# Altium footprint library valve_module.PcbLib: 12 footprints
Each footprint in its own frame and in the unit in brackets; x right, y up, seen from the top. Pads: shape width x height; smd on the part's side, far side on the other; paste and mask are expansions set on the pad; w line width, h text height; cw(c..) or ccw(c..) is an arc to the next point about the centre after c.
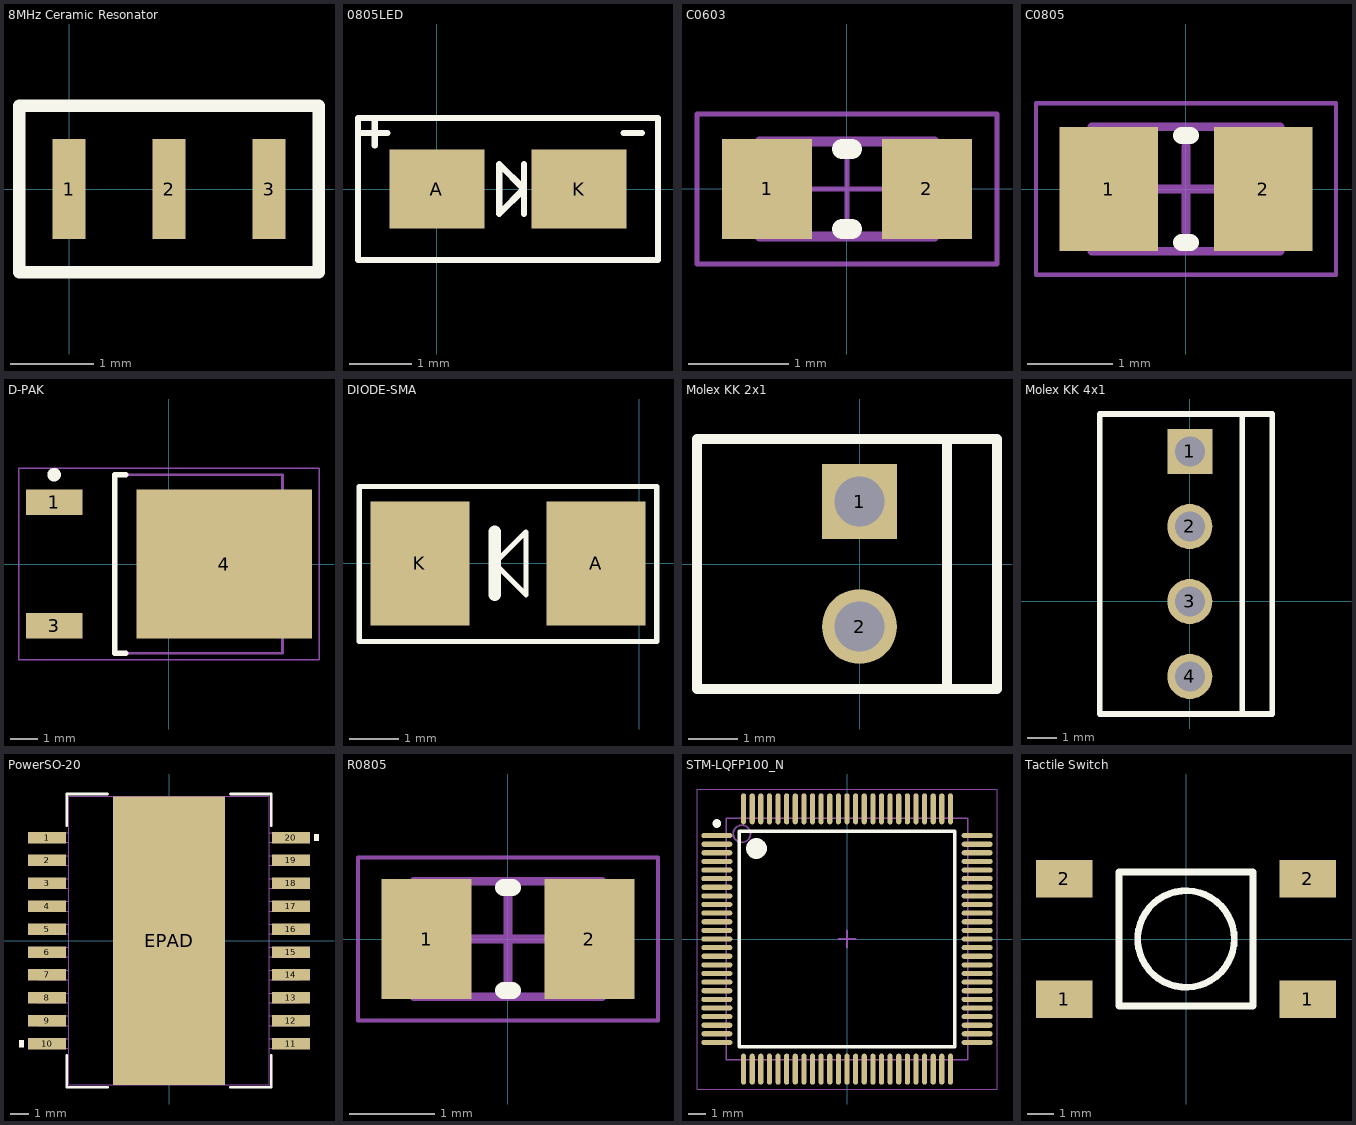
[diagram p0: the footprints below, top view; thin cyan lines are the x and y axes]

## 8MHz Ceramic Resonator [mm] "8MHz Ceramic Resonator Murata"
pads (3):
  rect 0.4x1.2 smd: 1(0,0) 2(1.2,0) 3(2.4,0)
Top Overlay:
  lines w0.15: -0.6,-1 3,-1 3,1 -0.6,1 -0.6,-1

## 0805LED [mil]
pads (2):
  rect 60x50 smd: A(0,0) K(90,0)
Top Overlay:
  lines w4: -50,35.43 -31.5,35.43 ; -39.37,27.56 -39.37,43.31 ; 55.12,-15.75 55.12,15.75 ; 118.11,35.43 129.92,35.43 ; -50,-45 -50,45 140,45 140,-45 -50,-45 ; 39.37,-15.75 39.37,15.75 55.12,0 39.37,-15.75
3D body "User Library-LED SMD0805.step": height 33.45, standoff 0.23, extent -0.6,-15.68 80.6,20

## C0603 [mm] "Chip Capacitor, Body 1.6x0.8mm, Height 1.0mm, IPC Medium Density"
height 1
pads (2):
  rect 0.9x1 smd: 1(-0.8,0) 2(0.8,0)
Top Overlay:
  lines w0.2: -0.05,-0.4 0.05,-0.4 ; -0.05,0.4 0.05,0.4
Mechanical 13:
  lines w0.1: -0.875,-0.475 0.875,-0.475 0.875,0.475 -0.875,0.475 -0.875,-0.475
Mechanical 15:
  lines w0.05: -0.475,0 0.475,0 ; 0,-0.475 0,0.475 ; -1.5,-0.75 1.5,-0.75 1.5,0.75 -1.5,0.75 -1.5,-0.75
3D body: height 1, standoff 0, extent 0.525,-0.475 0.875,0.475
3D body: height 1, standoff 0, extent -0.875,-0.475 -0.525,0.475
3D body: height 1, standoff 0, extent -0.525,-0.475 0.525,0.475

## C0805 [mm] "Chip Capacitor, Body 2.0x1.2mm, Height 0.75mm, IPC Medium Density"
height 0.75
pads (2):
  rect 1.15x1.45 smd: 1(-0.9,0) 2(0.9,0)
Top Overlay:
  lines w0.2: -0.05,-0.625 0.05,-0.625 ; -0.05,0.625 0.05,0.625
Mechanical 13:
  lines w0.1: -1.1,-0.725 1.1,-0.725 1.1,0.725 -1.1,0.725 -1.1,-0.725
Mechanical 15:
  lines w0.05: -1.75,-1 1.75,-1 1.75,1 -1.75,1 -1.75,-1
  lines w0.1: -0.5,0 0.5,0 ; 0,-0.5 0,0.5
3D body "User Library-cap0805.STEP": height 0.93, standoff -0.01, extent -1.425,-0.667 1.575,0.733

## D-PAK [mm] "D-PAK, 4-Leads, Body 6.1x6.5mm, Pitch 2.28mm, Lead Span 9.7mm, IPC Medium Density"
height 2.4
pads (3):
  rect 2.1x0.95 smd: 1(-4.25,2.28) 3(-4.25,-2.28)
  rect 6.5x5.5 smd: 4(2.05,0)
Top Overlay:
  circle w0.25: c-4.25,3.305 r0.125
  lines w0.2: -1.6,-3.3 -2,-3.3 -2,3.3 -1.6,3.3
Mechanical 13:
  lines w0.1: -2,-3.3 -2,3.3 4.2,3.3 4.2,-3.3 -2,-3.3
Mechanical 15:
  lines w0.05: -5.55,-3.55 -5.55,3.55 5.55,3.55 5.55,-3.55 -5.55,-3.55
  lines w0.1: -0.5,0 0.5,0 ; 0,-0.5 0,0.5
3D body "User Library-TO252AA.step": height 2.3, standoff -0.01, extent -4.596,-3.278 5.104,3.302

## DIODE-SMA [mm]
pads (2):
  rect 2x2.5 smd: A(-0.875,0) K(-4.425,0)
Top Overlay:
  lines w0.102: -5.65,-1.575 0.35,-1.575 0.35,1.55 -5.65,1.55 -5.65,-1.575 ; -2.921,0 -2.286,-0.635 -2.286,0 -2.286,0.635 -2.921,0
  lines w0.25: -2.921,-0.635 -2.921,0 -2.921,0.635
3D body "User Library-DO-214Aa SMA.step": height 1.4, standoff 1.4, extent -2.6,0 -2.6,0

## Molex KK 2x1 [mil]
pads (2):
  rect 60x60 hole 40: 1(0,50)
  round 60 hole 40: 2(0,-50)
Top Overlay:
  lines w7.87: -120,-100 110,-100 110,100 -130,100 -130,-60 -130,-100 -110,-100 ; 70,-100 70,100
3D body "User Library-molex kk 0_1in latching 2 way vertical header.step": height 457.5, standoff -142.5, extent -120,-100 110,100

## Molex KK 4x1 [mil]
pads (4):
  rect 60x60 hole 40: 1(0,200)
  round 60 hole 40: 2(0,100) 3(0,0) 4(0,-100)
Top Overlay:
  lines w7.87: 70,-150 70,250 ; -120,-150 -120,-120 -120,250 110,250 110,-150 -120,-150
3D body "User Library-molex kk 0_1in latching 4 way vertical header.step": height 457.5, standoff -142.5, extent -120,-150 110,250

## PowerSO-20 [mil]
pads (21):
  rect 83x25 smd paste+0 mask+0: 1(-266,225) 2(-266,175) 3(-266,125) 4(-266,75) 5(-266,25) 6(-266,-25) 7(-266,-75) 8(-266,-125) 9(-266,-175) 10(-266,-225) 11(266,-225) 12(266,-175) 13(266,-125) 14(266,-75) 15(266,-25) 16(266,25) 17(266,75) 18(266,125) 19(266,175) 20(266,225)
  rect 244x630 smd paste-314.5 mask+0: EPAD(0,0)
Top Overlay:
  region: -317.5,-217.5 -327.5,-217.5 -327.5,-232.5 -317.5,-232.5
  region: 317.5,232.5 327.5,232.5 327.5,217.5 317.5,217.5
  lines w6: -223.5,-250.56 -223.5,-320 -134.11,-320 ; -223.5,250.56 -223.5,320 -134.11,320 ; 134.11,-320 223.5,-320 223.5,-250.56 ; 134.11,320 223.5,320 223.5,250.56
Top Paste:
  drawing of 48 lines, arcs and shapes, not listed
Mechanical 13:
  lines w0: -12,315 ccw(c0,315) 12,315
  lines w1: -285.5,-235.5 -285.5,-214.5 -218.5,-214.5 -218.5,-235.5 -285.5,-235.5 ; -285.5,-185.5 -285.5,-164.5 -218.5,-164.5 -218.5,-185.5 -285.5,-185.5 ; -285.5,-135.5 -285.5,-114.5 -218.5,-114.5 -218.5,-135.5 -285.5,-135.5 ; -285.5,-85.5 -285.5,-64.5 -218.5,-64.5 -218.5,-85.5 -285.5,-85.5 ; -285.5,-35.5 -285.5,-14.5 -218.5,-14.5 -218.5,-35.5 -285.5,-35.5 ; -285.5,14.5 -285.5,35.5 -218.5,35.5 -218.5,14.5 -285.5,14.5 ; -285.5,64.5 -285.5,85.5 -218.5,85.5 -218.5,64.5 -285.5,64.5 ; -285.5,114.5 -285.5,135.5 -218.5,135.5 -218.5,114.5 -285.5,114.5 ; -285.5,164.5 -285.5,185.5 -218.5,185.5 -218.5,164.5 -285.5,164.5 ; -285.5,214.5 -285.5,235.5 -218.5,235.5 -218.5,214.5 -285.5,214.5 ; -218.5,-315 218.5,-315 218.5,315 -218.5,315 -218.5,-315 ; 218.5,-235.5 218.5,-214.5 285.5,-214.5 285.5,-235.5 218.5,-235.5 ; 218.5,-185.5 218.5,-164.5 285.5,-164.5 285.5,-185.5 218.5,-185.5 ; 218.5,-135.5 218.5,-114.5 285.5,-114.5 285.5,-135.5 218.5,-135.5 ; 218.5,-85.5 218.5,-64.5 285.5,-64.5 285.5,-85.5 218.5,-85.5 ; 218.5,-35.5 218.5,-14.5 285.5,-14.5 285.5,-35.5 218.5,-35.5 ; 218.5,14.5 218.5,35.5 285.5,35.5 285.5,14.5 218.5,14.5 ; 218.5,64.5 218.5,85.5 285.5,85.5 285.5,64.5 218.5,64.5 ; 218.5,114.5 218.5,135.5 285.5,135.5 285.5,114.5 218.5,114.5 ; 218.5,164.5 218.5,185.5 285.5,185.5 285.5,164.5 218.5,164.5 ; 218.5,214.5 218.5,235.5 285.5,235.5 285.5,214.5 218.5,214.5
3D body: height 10, standoff 0, extent 0,0 10,10
3D body "PowerSO-20.step": height 142.09, standoff 0, extent -285.51,-315 285.51,315

## R0805 [mm] "Chip Resistor, Body 2.0x1.3mm, IPC Medium Density"
height 0.7
pads (2):
  rect 1.05x1.4 smd: 1(-0.95,0) 2(0.95,0)
Top Overlay:
  lines w0.2: -0.05,-0.6 0.05,-0.6 ; -0.05,0.6 0.05,0.6
Mechanical 13:
  lines w0.1: -1.1,-0.675 1.1,-0.675 1.1,0.675 -1.1,0.675 -1.1,-0.675
Mechanical 15:
  lines w0.05: -1.75,-0.95 1.75,-0.95 1.75,0.95 -1.75,0.95 -1.75,-0.95
  lines w0.1: -0.5,0 0.5,0 ; 0,-0.5 0,0.5
3D body "User Library-res0805.STEP": height 0.53, standoff 0, extent -1.465,-0.702 1.535,0.698

## STM-LQFP100_N [mm] "Thin QFP, 100-Leads, Body 14x14mm, Pitch 0.5mm, IPC Medium Density"
height 1.6
pads (100):
  oval 1.8x0.3 smd: 1(-7.55,6) 2(-7.55,5.5) 3(-7.55,5) 4(-7.55,4.5) 5(-7.55,4) 6(-7.55,3.5) 7(-7.55,3) 8(-7.55,2.5) 9(-7.55,2) 10(-7.55,1.5) 11(-7.55,1) 12(-7.55,0.5) 13(-7.55,0) 14(-7.55,-0.5) 15(-7.55,-1) 16(-7.55,-1.5) 17(-7.55,-2) 18(-7.55,-2.5) 19(-7.55,-3) 20(-7.55,-3.5) 21(-7.55,-4) 22(-7.55,-4.5) 23(-7.55,-5) 24(-7.55,-5.5) 25(-7.55,-6) 51(7.55,-6) 52(7.55,-5.5) 53(7.55,-5) 54(7.55,-4.5) 55(7.55,-4) 56(7.55,-3.5) 57(7.55,-3) 58(7.55,-2.5) 59(7.55,-2) 60(7.55,-1.5) 61(7.55,-1) 62(7.55,-0.5) 63(7.55,0) 64(7.55,0.5) 65(7.55,1) 66(7.55,1.5) 67(7.55,2) 68(7.55,2.5) 69(7.55,3) 70(7.55,3.5) 71(7.55,4) 72(7.55,4.5) 73(7.55,5) 74(7.55,5.5) 75(7.55,6)
  oval 0.3x1.8 smd: 26(-6,-7.55) 27(-5.5,-7.55) 28(-5,-7.55) 29(-4.5,-7.55) 30(-4,-7.55) 31(-3.5,-7.55) 32(-3,-7.55) 33(-2.5,-7.55) 34(-2,-7.55) 35(-1.5,-7.55) 36(-1,-7.55) 37(-0.5,-7.55) 38(0,-7.55) 39(0.5,-7.55) 40(1,-7.55) 41(1.5,-7.55) 42(2,-7.55) 43(2.5,-7.55) 44(3,-7.55) 45(3.5,-7.55) 46(4,-7.55) 47(4.5,-7.55) 48(5,-7.55) 49(5.5,-7.55) 50(6,-7.55) 76(6,7.55) 77(5.5,7.55) 78(5,7.55) 79(4.5,7.55) 80(4,7.55) 81(3.5,7.55) 82(3,7.55) 83(2.5,7.55) 84(2,7.55) 85(1.5,7.55) 86(1,7.55) 87(0.5,7.55) 88(0,7.55) 89(-0.5,7.55) 90(-1,7.55) 91(-1.5,7.55) 92(-2,7.55) 93(-2.5,7.55) 94(-3,7.55) 95(-3.5,7.55) 96(-4,7.55) 97(-4.5,7.55) 98(-5,7.55) 99(-5.5,7.55) 100(-6,7.55)
Top Overlay:
  circle w0.6: c-5.25,5.25 r0.3
  circle w0.25: c-7.55,6.7 r0.125
  lines w0.2: -6.25,-6.25 6.25,-6.25 6.25,6.25 -6.25,6.25 -6.25,-6.25
Mechanical 13:
  circle w0.1: c-6.1,6.1 r0.5
  lines w0.1: -7,-7 7,-7 7,7 -7,7 -7,-7
Mechanical 15:
  lines w0.05: -8.7,-8.7 8.7,-8.7 8.7,8.7 -8.7,8.7 -8.7,-8.7
  lines w0.1: -0.5,0 0.5,0 ; 0,-0.5 0,0.5
3D body: height 1.6, standoff 0.05, extent -7,-7 7,7

## Tactile Switch [mm]
pads (4):
  rect 2.1x1.4 smd: 1(-4.55,-2.25) 1(4.55,-2.25) 2(-4.55,2.25) 2(4.55,2.25)
Top Overlay:
  circle w0.254: c0,0 r1.803
  lines w0.254: -2.5,-2.5 2.5,-2.5 2.5,2.5 -2.5,2.5 -2.5,-2.5
3D body "TL3301AFxxxxG.stp": height 5.12, standoff 0.02, extent -5,-3 5,3